# EAGLE library part SN65C3221E (library texas)
SINGLE-CHANNEL RS-232 1-Mbit/s LINE DRIVER/RECEIVER 3-V TO 5.5-V WITH ±15-kV IEC ESD PROTECTION
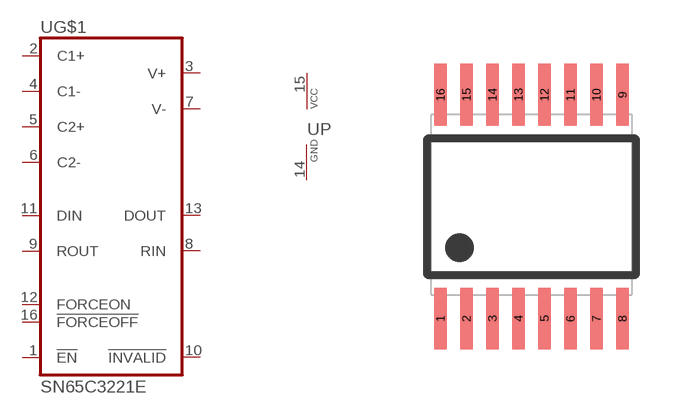
[diagram p120: symbol with the pads of TSSOP16; footprint TSSOP16]

Designator prefix U; gates G$1=SN65C3221E P=VCCGND

## SN65C3221EPW  [TSSOP16]
1  G$1:!EN!  in
2  G$1:C1+  pas
3  G$1:V+  pas
4  G$1:C1-  pas
5  G$1:C2+  pas
6  G$1:C2-  pas
7  G$1:V-  pas
8  G$1:RIN  in
9  G$1:ROUT  out
10  G$1:!INVALID!  out
11  G$1:DIN  in
12  G$1:FORCEON  in
13  G$1:DOUT  out
14  P:GND  pwr
15  P:VCC  pwr
16  G$1:!FORCEOFF!  in

## Footprint TSSOP16 (pad centres in mm)
Thin Shrink Small Outline Plastic 16
smd 0.31 x 1.55: 1 -2.275,-2.8; 2 -1.625,-2.8; 3 -0.975,-2.8; 4 -0.325,-2.8; 5 0.325,-2.8; 6 0.975,-2.8; 7 1.625,-2.8; 8 2.275,-2.8; 9 2.275,2.8; 10 1.625,2.8; 11 0.975,2.8; 12 0.325,2.8; 13 -0.325,2.8; 14 -0.975,2.8; 15 -1.625,2.8; 16 -2.275,2.8